# Altium schematic symbol library kmilo17pet-LT_ChargePump.SchLib: 599 symbols (part 10 of 29)
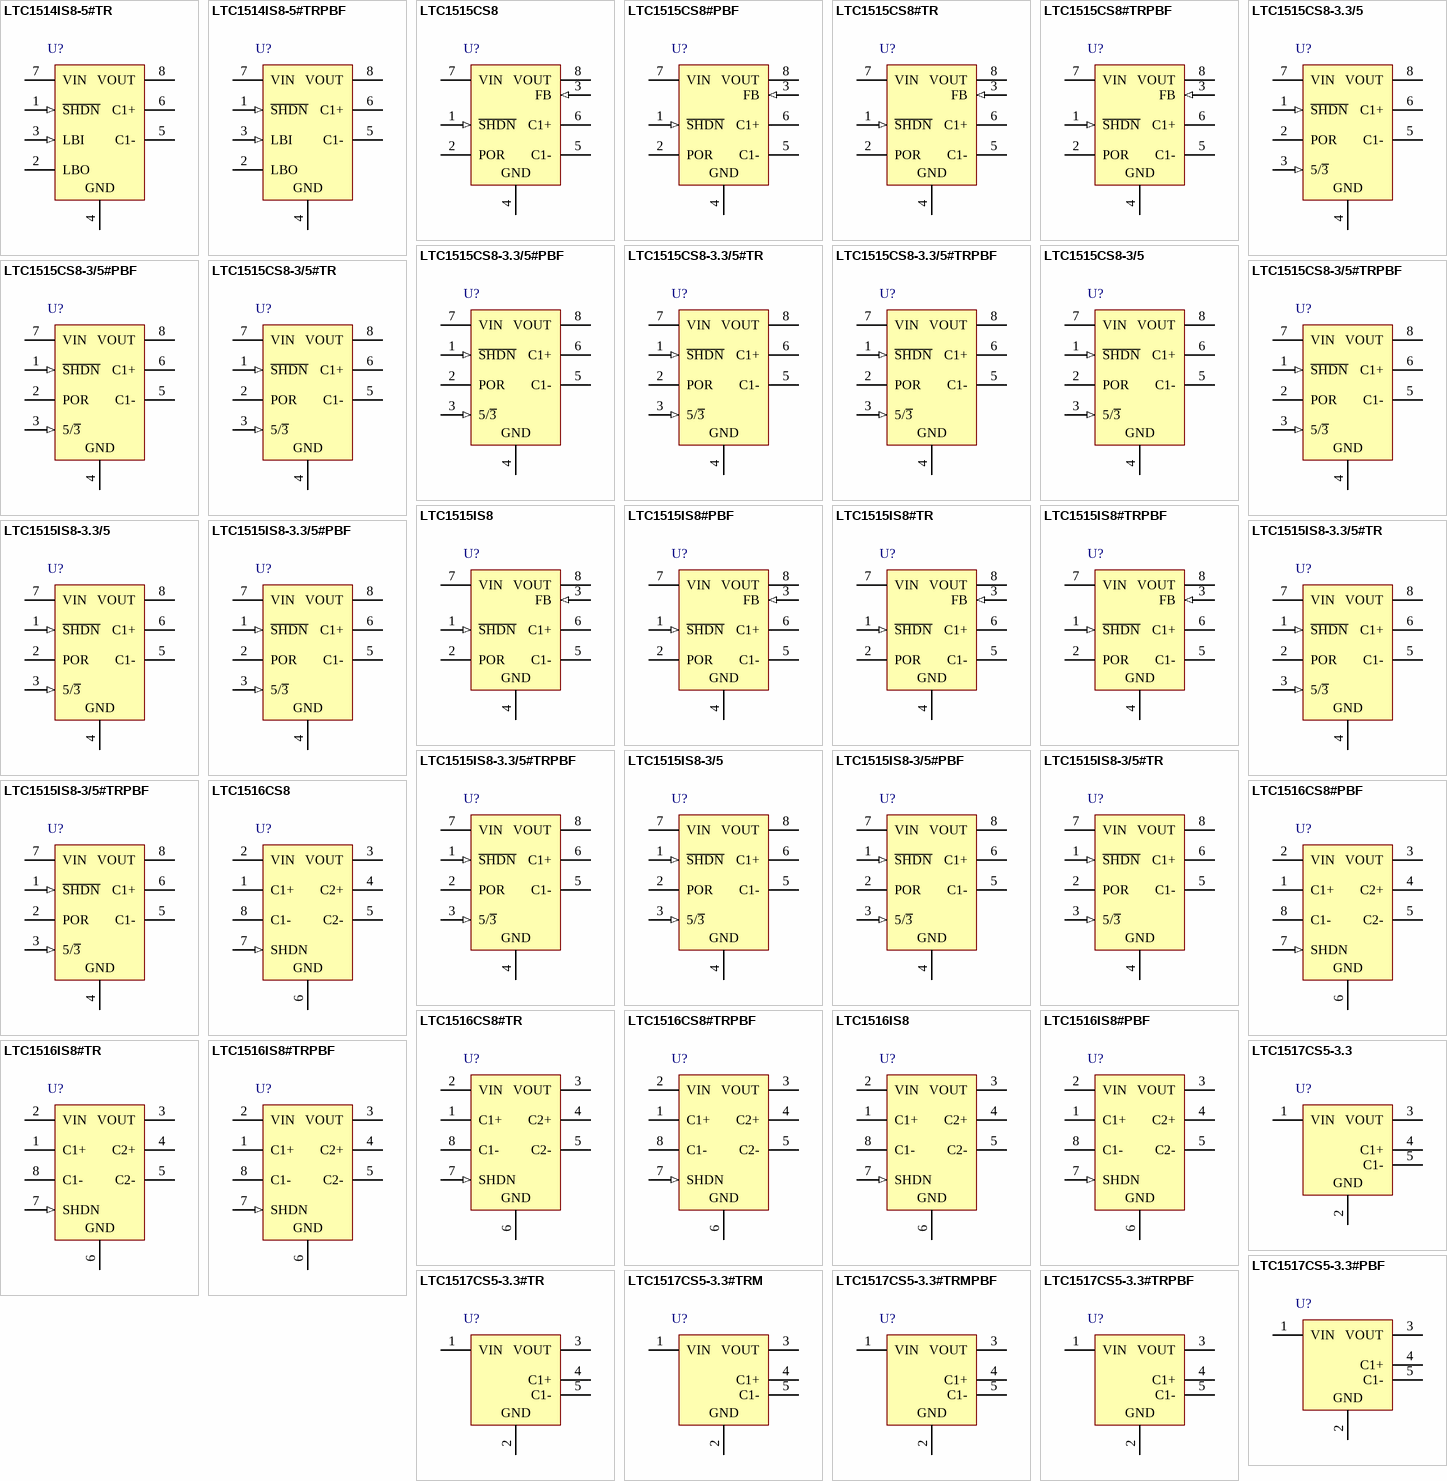
[diagram p25: symbols LTC1514IS8-5#TR to LTC1517CS5-3.3#TRPBF]

## LTC1516IS8#PBF
designator U?
Micropower, Regulated Charge Pump DC/DC Converter, 2 to 5 V Vin, 5 V Vout, 8-pin SOIC (S8-8), -40 to 85 degC, Tape and Reel; Manufacturer: Linear Technology; PartNumber: LTC1516IS8#PBF; Frequency(kHz): 600; Isupply(mA): 0.012; Max Iout(mA): 50; Vin Max(V): 5; Vin Min(V): 2; Voutput: 5V; PackageVersion: Rev. G, 03/2012; PackageReference: S8-8; PackageDescription: 8-Pin Plastic Small Outline (Narrow .150 Inch), Body 4.9 x 3.9 mm, Pitch 1.27 mm; Supplier 1: Digi-Key; Supplier Part Number 1: LTC1516IS8#PBF-ND; Supplier 2: Newark; Supplier Part Number 2: 56M1741; RoHS: TRUE; Mounting Technology: Surface Mount; ComponentLink1Description: Manufacturer URL; ComponentLink1URL: http://www.linear.com/; ComponentLink2Description: Datasheet; ComponentLink2URL: http://cds.linear.com/docs/en/datasheet/1516f.pdf; ComponentLink3Description: Package Specification; ComponentLink3URL: http://cds.linear.com/docs/en/packaging/05081610_G_SO8.pdf
footprint LT-S8-8_N (SOIC, 8-Leads, Body 5x4mm, Pitch 1.27mm, IPC Medium Density)
footprint LT-S8-8_L (SOIC, 8-Leads, Body 5x4mm, Pitch 1.27mm, IPC High Density)
footprint LT-S8-8_M (SOIC, 8-Leads, Body 5x4mm, Pitch 1.27mm, IPC Low Density)
pins: 1 C1+ "Flying Capacitor 1, Positive Terminal.", 2 VIN (power) "Input Supply Voltage.", 3 VOUT (power) "5V Output Voltage (VOUT = 0V in Shutdown).", 4 C2+ "Flying Capacitor 2, Positive Terminal.", 5 C2- "Flying Capacitor 2, Negative Terminal.", 6 GND (power) "Ground.", 7 SHDN (in) "Active High CMOS Logic-Level Shutdown Input.", 8 C1- "Flying Capacitor 1, Negative Terminal."

## LTC1516IS8#TR
designator U?
Micropower, Regulated Charge Pump DC/DC Converter, 2 to 5 V Vin, 5 V Vout, 8-pin SOIC (S8-8), -40 to 85 degC, Pb-Free; Manufacturer: Linear Technology; PartNumber: LTC1516IS8#TR; Frequency(kHz): 600; Isupply(mA): 0.012; Max Iout(mA): 50; Packing: Tape and Reel; Vin Max(V): 5; Vin Min(V): 2; Voutput: 5V; PackageVersion: Rev. G, 03/2012; PackageReference: S8-8; PackageDescription: 8-Pin Plastic Small Outline (Narrow .150 Inch), Body 4.9 x 3.9 mm, Pitch 1.27 mm; Supplier 1: Digi-Key; Supplier Part Number 1: LTC1516IS8#TR-ND; RoHS: FALSE; Mounting Technology: Surface Mount; ComponentLink1Description: Manufacturer URL; ComponentLink1URL: http://www.linear.com/; ComponentLink2Description: Datasheet; ComponentLink2URL: http://cds.linear.com/docs/en/datasheet/1516f.pdf; ComponentLink3Description: Package Specification; ComponentLink3URL: http://cds.linear.com/docs/en/packaging/05081610_G_SO8.pdf
footprint LT-S8-8_N (SOIC, 8-Leads, Body 5x4mm, Pitch 1.27mm, IPC Medium Density)
footprint LT-S8-8_L (SOIC, 8-Leads, Body 5x4mm, Pitch 1.27mm, IPC High Density)
footprint LT-S8-8_M (SOIC, 8-Leads, Body 5x4mm, Pitch 1.27mm, IPC Low Density)
pins: 1 C1+ "Flying Capacitor 1, Positive Terminal.", 2 VIN (power) "Input Supply Voltage.", 3 VOUT (power) "5V Output Voltage (VOUT = 0V in Shutdown).", 4 C2+ "Flying Capacitor 2, Positive Terminal.", 5 C2- "Flying Capacitor 2, Negative Terminal.", 6 GND (power) "Ground.", 7 SHDN (in) "Active High CMOS Logic-Level Shutdown Input.", 8 C1- "Flying Capacitor 1, Negative Terminal."

## LTC1516IS8#TRPBF
designator U?
Micropower, Regulated Charge Pump DC/DC Converter, 2 to 5 V Vin, 5 V Vout, 8-pin SOIC (S8-8), -40 to 85 degC, Pb-Free, Tape and Reel; Manufacturer: Linear Technology; PartNumber: LTC1516IS8#TRPBF; Frequency(kHz): 600; Isupply(mA): 0.012; Max Iout(mA): 50; Vin Max(V): 5; Vin Min(V): 2; Voutput: 5V; PackageVersion: Rev. G, 03/2012; PackageReference: S8-8; PackageDescription: 8-Pin Plastic Small Outline (Narrow .150 Inch), Body 4.9 x 3.9 mm, Pitch 1.27 mm; Supplier 1: Digi-Key; Supplier Part Number 1: LTC1516IS8#TRPBF-ND; Packing: Tape and Reel; RoHS: TRUE; Mounting Technology: Surface Mount; ComponentLink1Description: Manufacturer URL; ComponentLink1URL: http://www.linear.com/; ComponentLink2Description: Datasheet; ComponentLink2URL: http://cds.linear.com/docs/en/datasheet/1516f.pdf; ComponentLink3Description: Package Specification; ComponentLink3URL: http://cds.linear.com/docs/en/packaging/05081610_G_SO8.pdf
footprint LT-S8-8_N (SOIC, 8-Leads, Body 5x4mm, Pitch 1.27mm, IPC Medium Density)
footprint LT-S8-8_L (SOIC, 8-Leads, Body 5x4mm, Pitch 1.27mm, IPC High Density)
footprint LT-S8-8_M (SOIC, 8-Leads, Body 5x4mm, Pitch 1.27mm, IPC Low Density)
pins: 1 C1+ "Flying Capacitor 1, Positive Terminal.", 2 VIN (power) "Input Supply Voltage.", 3 VOUT (power) "5V Output Voltage (VOUT = 0V in Shutdown).", 4 C2+ "Flying Capacitor 2, Positive Terminal.", 5 C2- "Flying Capacitor 2, Negative Terminal.", 6 GND (power) "Ground.", 7 SHDN (in) "Active High CMOS Logic-Level Shutdown Input.", 8 C1- "Flying Capacitor 1, Negative Terminal."

## LTC1517CS5-3.3
designator U?
Micropower, Regulated Charge Pump, 2 to 4.4 V Vin, 3.3 V Vout, 5-pin SOT23 (S5-5), 0 to 70 degC; Manufacturer: Linear Technology; PartNumber: LTC1517CS5-3.3; Frequency(kHz): 700; Ishutdown(uA): 1; Isupply(mA): 0.006; Max Iout(mA): 15; Vin Max(V): 4.4; Vin Min(V): 2; Voutput: 3.3V; PackageVersion: Aug-07; PackageReference: S5-5; PackageDescription: 5-Pin Plastic SOT-23, Body 1.625 x 2.90 mm, Pitch 0.95 mm; RoHS: FALSE; Mounting Technology: Surface Mount; ComponentLink1Description: Manufacturer URL; ComponentLink1URL: http://www.linear.com/; ComponentLink2Description: Datasheet; ComponentLink2URL: http://cds.linear.com/docs/en/datasheet/15173fs.pdf; ComponentLink3Description: Package Specification; ComponentLink3URL: http://cds.linear.com/docs/en/datasheet/17278fb.pdf
footprint LT-S5-5-SOT-23_N (SOT23, 5-Leads, Body 3x1.75mm, Pitch 0.95mm, IPC Medium Density)
footprint LT-S5-5-SOT-23_L (SOT23, 5-Leads, Body 3x1.75mm, Pitch 0.95mm, IPC High Density)
footprint LT-S5-5-SOT-23_M (SOT23, 5-Leads, Body 3x1.75mm, Pitch 0.95mm, IPC Low Density)
pins: 1 VIN (power) "Charge Pump Input Voltage.", 2 GND (power) "Ground. Should be tied to a ground plane for best performance.", 3 VOUT (power) "Regulated Output Voltage. VOUT should be  bypassed with a >= 3.3 uF low ESR capacitor as close as possible to the pin for best performance.", 4 C1+ "Charge Pump Flying Capacitor Positive Terminal.", 5 C1- "Charge Pump Flying Capacitor Negative Terminal."

## LTC1517CS5-3.3#PBF
designator U?
Micropower, Regulated Charge Pump, 2 to 4.4 V Vin, 3.3 V Vout, 5-pin SOT23 (S5-5), 0 to 70 degC, Pb-Free; Manufacturer: Linear Technology; PartNumber: LTC1517CS5-3.3#PBF; Frequency(kHz): 700; Ishutdown(uA): 1; Isupply(mA): 0.006; Max Iout(mA): 15; Vin Max(V): 4.4; Vin Min(V): 2; Voutput: 3.3V; PackageVersion: Aug-07; PackageReference: S5-5; PackageDescription: 5-Pin Plastic SOT-23, Body 1.625 x 2.90 mm, Pitch 0.95 mm; RoHS: TRUE; Mounting Technology: Surface Mount; ComponentLink1Description: Manufacturer URL; ComponentLink1URL: http://www.linear.com/; ComponentLink2Description: Datasheet; ComponentLink2URL: http://cds.linear.com/docs/en/datasheet/15173fs.pdf; ComponentLink3Description: Package Specification; ComponentLink3URL: http://cds.linear.com/docs/en/datasheet/17278fb.pdf
footprint LT-S5-5-SOT-23_N (SOT23, 5-Leads, Body 3x1.75mm, Pitch 0.95mm, IPC Medium Density)
footprint LT-S5-5-SOT-23_L (SOT23, 5-Leads, Body 3x1.75mm, Pitch 0.95mm, IPC High Density)
footprint LT-S5-5-SOT-23_M (SOT23, 5-Leads, Body 3x1.75mm, Pitch 0.95mm, IPC Low Density)
pins: 1 VIN (power) "Charge Pump Input Voltage.", 2 GND (power) "Ground. Should be tied to a ground plane for best performance.", 3 VOUT (power) "Regulated Output Voltage. VOUT should be  bypassed with a >= 3.3 uF low ESR capacitor as close as possible to the pin for best performance.", 4 C1+ "Charge Pump Flying Capacitor Positive Terminal.", 5 C1- "Charge Pump Flying Capacitor Negative Terminal."

## LTC1517CS5-3.3#TR
designator U?
Micropower, Regulated Charge Pump, 2 to 4.4 V Vin, 3.3 V Vout, 5-pin SOT23 (S5-5), 0 to 70 degC, Tape and Reel; Manufacturer: Linear Technology; PartNumber: LTC1517CS5-3.3#TR; Frequency(kHz): 700; Ishutdown(uA): 1; Isupply(mA): 0.006; Max Iout(mA): 15; Vin Max(V): 4.4; Vin Min(V): 2; Voutput: 3.3V; PackageVersion: Aug-07; PackageReference: S5-5; PackageDescription: 5-Pin Plastic SOT-23, Body 1.625 x 2.90 mm, Pitch 0.95 mm; Supplier 1: Digi-Key; Supplier Part Number 1: LTC1517CS5-3.3#TR-ND; Packing: Tape and Reel; RoHS: FALSE; Mounting Technology: Surface Mount; ComponentLink1Description: Manufacturer URL; ComponentLink1URL: http://www.linear.com/; ComponentLink2Description: Datasheet; ComponentLink2URL: http://cds.linear.com/docs/en/datasheet/15173fs.pdf; ComponentLink3Description: Package Specification; ComponentLink3URL: http://cds.linear.com/docs/en/datasheet/17278fb.pdf
footprint LT-S5-5-SOT-23_N (SOT23, 5-Leads, Body 3x1.75mm, Pitch 0.95mm, IPC Medium Density)
footprint LT-S5-5-SOT-23_L (SOT23, 5-Leads, Body 3x1.75mm, Pitch 0.95mm, IPC High Density)
footprint LT-S5-5-SOT-23_M (SOT23, 5-Leads, Body 3x1.75mm, Pitch 0.95mm, IPC Low Density)
pins: 1 VIN (power) "Charge Pump Input Voltage.", 2 GND (power) "Ground. Should be tied to a ground plane for best performance.", 3 VOUT (power) "Regulated Output Voltage. VOUT should be  bypassed with a >= 3.3 uF low ESR capacitor as close as possible to the pin for best performance.", 4 C1+ "Charge Pump Flying Capacitor Positive Terminal.", 5 C1- "Charge Pump Flying Capacitor Negative Terminal."

## LTC1517CS5-3.3#TRM
designator U?
Micropower, Regulated Charge Pump, 2 to 4.4 V Vin, 3.3 V Vout, 5-pin SOT23 (S5-5), 0 to 70 degC, Mini Tape and Reel; Manufacturer: Linear Technology; PartNumber: LTC1517CS5-3.3#TRM; Frequency(kHz): 700; Ishutdown(uA): 1; Isupply(mA): 0.006; Max Iout(mA): 15; Vin Max(V): 4.4; Vin Min(V): 2; Voutput: 3.3V; PackageVersion: Aug-07; PackageReference: S5-5; PackageDescription: 5-Pin Plastic SOT-23, Body 1.625 x 2.90 mm, Pitch 0.95 mm; Supplier 1: Digi-Key; Supplier Part Number 1: LTC1517CS5-3.3#TRMTR-ND; Supplier 2: Digi-Key; Supplier Part Number 2: LTC1517CS5-3.3#TRMCT-ND; Packing: Mini Tape and Reel; RoHS: FALSE; Mounting Technology: Surface Mount; ComponentLink1Description: Manufacturer URL; ComponentLink1URL: http://www.linear.com/; ComponentLink2Description: Datasheet; ComponentLink2URL: http://cds.linear.com/docs/en/datasheet/15173fs.pdf; ComponentLink3Description: Package Specification; ComponentLink3URL: http://cds.linear.com/docs/en/datasheet/17278fb.pdf
footprint LT-S5-5-SOT-23_N (SOT23, 5-Leads, Body 3x1.75mm, Pitch 0.95mm, IPC Medium Density)
footprint LT-S5-5-SOT-23_L (SOT23, 5-Leads, Body 3x1.75mm, Pitch 0.95mm, IPC High Density)
footprint LT-S5-5-SOT-23_M (SOT23, 5-Leads, Body 3x1.75mm, Pitch 0.95mm, IPC Low Density)
pins: 1 VIN (power) "Charge Pump Input Voltage.", 2 GND (power) "Ground. Should be tied to a ground plane for best performance.", 3 VOUT (power) "Regulated Output Voltage. VOUT should be  bypassed with a >= 3.3 uF low ESR capacitor as close as possible to the pin for best performance.", 4 C1+ "Charge Pump Flying Capacitor Positive Terminal.", 5 C1- "Charge Pump Flying Capacitor Negative Terminal."

## LTC1517CS5-3.3#TRMPBF
designator U?
Micropower, Regulated Charge Pump, 2 to 4.4 V Vin, 3.3 V Vout, 5-pin SOT23 (S5-5), 0 to 70 degC, Pb-Free, Mini Tape and Reel; Manufacturer: Linear Technology; PartNumber: LTC1517CS5-3.3#TRMPBF; Frequency(kHz): 700; Ishutdown(uA): 1; Isupply(mA): 0.006; Max Iout(mA): 15; Vin Max(V): 4.4; Vin Min(V): 2; Voutput: 3.3V; PackageVersion: Aug-07; PackageReference: S5-5; PackageDescription: 5-Pin Plastic SOT-23, Body 1.625 x 2.90 mm, Pitch 0.95 mm; Supplier 1: Digi-Key; Supplier Part Number 1: LTC1517CS5-3.3#TRMPBF-ND; Packing: Mini Tape and Reel; RoHS: TRUE; Mounting Technology: Surface Mount; ComponentLink1Description: Manufacturer URL; ComponentLink1URL: http://www.linear.com/; ComponentLink2Description: Datasheet; ComponentLink2URL: http://cds.linear.com/docs/en/datasheet/15173fs.pdf; ComponentLink3Description: Package Specification; ComponentLink3URL: http://cds.linear.com/docs/en/datasheet/17278fb.pdf
footprint LT-S5-5-SOT-23_N (SOT23, 5-Leads, Body 3x1.75mm, Pitch 0.95mm, IPC Medium Density)
footprint LT-S5-5-SOT-23_L (SOT23, 5-Leads, Body 3x1.75mm, Pitch 0.95mm, IPC High Density)
footprint LT-S5-5-SOT-23_M (SOT23, 5-Leads, Body 3x1.75mm, Pitch 0.95mm, IPC Low Density)
pins: 1 VIN (power) "Charge Pump Input Voltage.", 2 GND (power) "Ground. Should be tied to a ground plane for best performance.", 3 VOUT (power) "Regulated Output Voltage. VOUT should be  bypassed with a >= 3.3 uF low ESR capacitor as close as possible to the pin for best performance.", 4 C1+ "Charge Pump Flying Capacitor Positive Terminal.", 5 C1- "Charge Pump Flying Capacitor Negative Terminal."

## LTC1517CS5-3.3#TRPBF
designator U?
Micropower, Regulated Charge Pump, 2 to 4.4 V Vin, 3.3 V Vout, 5-pin SOT23 (S5-5), 0 to 70 degC, Pb-Free, Tape and Reel; Manufacturer: Linear Technology; PartNumber: LTC1517CS5-3.3#TRPBF; Frequency(kHz): 700; Ishutdown(uA): 1; Isupply(mA): 0.006; Max Iout(mA): 15; Vin Max(V): 4.4; Vin Min(V): 2; Voutput: 3.3V; PackageVersion: Aug-07; PackageReference: S5-5; PackageDescription: 5-Pin Plastic SOT-23, Body 1.625 x 2.90 mm, Pitch 0.95 mm; Supplier 1: Digi-Key; Supplier Part Number 1: LTC1517CS5-3.3#TRPBF-ND; Packing: Tape and Reel; RoHS: TRUE; Mounting Technology: Surface Mount; ComponentLink1Description: Manufacturer URL; ComponentLink1URL: http://www.linear.com/; ComponentLink2Description: Datasheet; ComponentLink2URL: http://cds.linear.com/docs/en/datasheet/15173fs.pdf; ComponentLink3Description: Package Specification; ComponentLink3URL: http://cds.linear.com/docs/en/datasheet/17278fb.pdf
footprint LT-S5-5-SOT-23_N (SOT23, 5-Leads, Body 3x1.75mm, Pitch 0.95mm, IPC Medium Density)
footprint LT-S5-5-SOT-23_L (SOT23, 5-Leads, Body 3x1.75mm, Pitch 0.95mm, IPC High Density)
footprint LT-S5-5-SOT-23_M (SOT23, 5-Leads, Body 3x1.75mm, Pitch 0.95mm, IPC Low Density)
pins: 1 VIN (power) "Charge Pump Input Voltage.", 2 GND (power) "Ground. Should be tied to a ground plane for best performance.", 3 VOUT (power) "Regulated Output Voltage. VOUT should be  bypassed with a >= 3.3 uF low ESR capacitor as close as possible to the pin for best performance.", 4 C1+ "Charge Pump Flying Capacitor Positive Terminal.", 5 C1- "Charge Pump Flying Capacitor Negative Terminal."

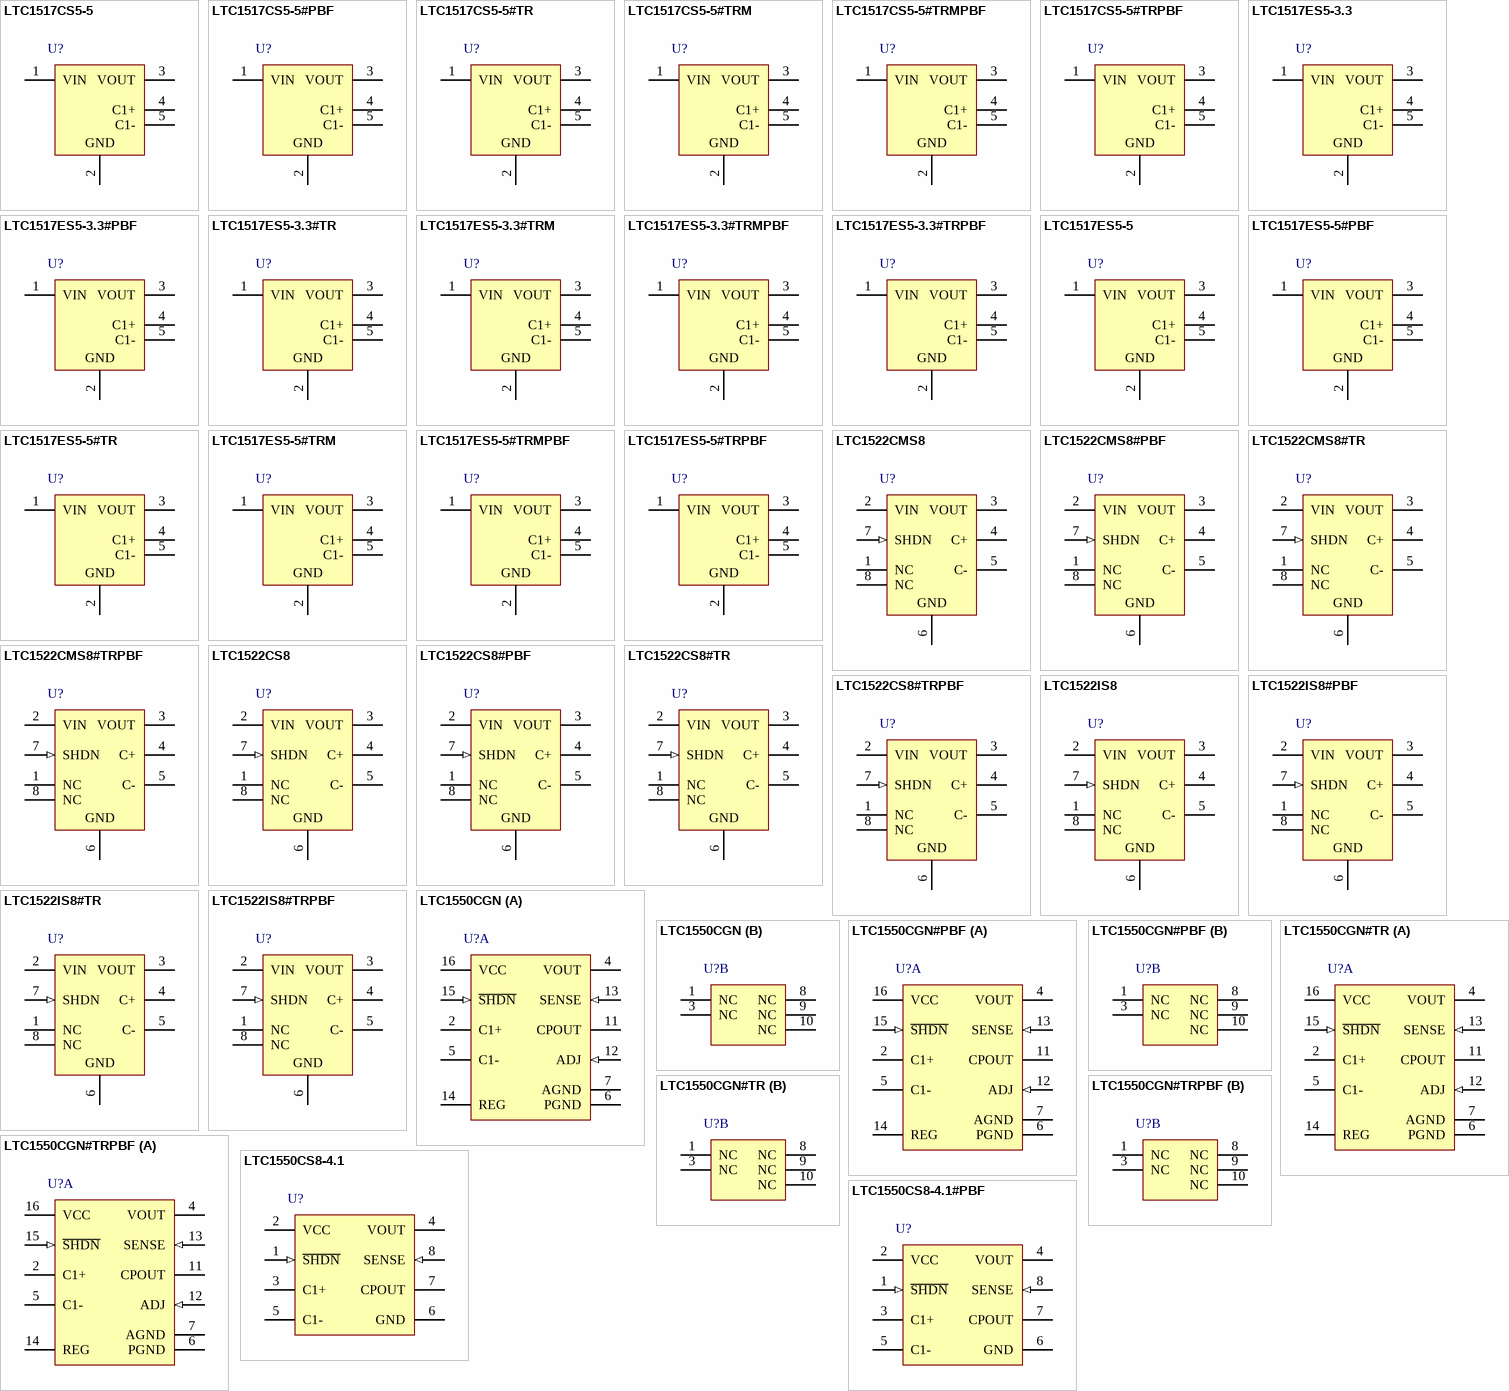
[diagram p6: symbols LTC1517CS5-5 to LTC1550CS8-4.1#PBF]

## LTC1517CS5-5
designator U?
Micropower, Regulated Charge Pump, 2.7 to 5 V Vin, 5 V Vout, 5-pin SOT23 (S5-5), 0 to 70 degC; Manufacturer: Linear Technology; PartNumber: LTC1517CS5-5; Frequency(kHz): 800; Ishutdown(uA): 1; Isupply(mA): 0.006; Max Iout(mA): 20; Vin Max(V): 5; Vin Min(V): 2.7; Voutput: 5V; PackageVersion: Aug-07; PackageReference: S5-5; PackageDescription: 5-Pin Plastic SOT-23, Body 1.625 x 2.90 mm, Pitch 0.95 mm; RoHS: FALSE; Mounting Technology: Surface Mount; ComponentLink1Description: Manufacturer URL; ComponentLink1URL: http://www.linear.com/; ComponentLink2Description: Datasheet; ComponentLink2URL: http://cds.linear.com/docs/en/datasheet/15175fs.pdf; ComponentLink3Description: Package Specification; ComponentLink3URL: http://cds.linear.com/docs/en/datasheet/17278fb.pdf
footprint LT-S5-5-SOT-23_N (SOT23, 5-Leads, Body 3x1.75mm, Pitch 0.95mm, IPC Medium Density)
footprint LT-S5-5-SOT-23_L (SOT23, 5-Leads, Body 3x1.75mm, Pitch 0.95mm, IPC High Density)
footprint LT-S5-5-SOT-23_M (SOT23, 5-Leads, Body 3x1.75mm, Pitch 0.95mm, IPC Low Density)
pins: 1 VIN (power) "Charge Pump Input Voltage.", 2 GND (power) "Ground. Should be tied to a ground plane for best performance.", 3 VOUT (power) "Regulated Output Voltage. VOUT should be  bypassed with a >= 3.3 uF low ESR capacitor as close as possible to the pin for best performance.", 4 C1+ "Charge Pump Flying Capacitor Positive Terminal.", 5 C1- "Charge Pump Flying Capacitor Negative Terminal."

## LTC1517CS5-5#PBF
designator U?
Micropower, Regulated Charge Pump, 2.7 to 5 V Vin, 5 V Vout, 5-pin SOT23 (S5-5), 0 to 70 degC, Pb-Free; Manufacturer: Linear Technology; PartNumber: LTC1517CS5-5#PBF; Frequency(kHz): 800; Ishutdown(uA): 1; Isupply(mA): 0.006; Max Iout(mA): 20; Vin Max(V): 5; Vin Min(V): 2.7; Voutput: 5V; PackageVersion: Aug-07; PackageReference: S5-5; PackageDescription: 5-Pin Plastic SOT-23, Body 1.625 x 2.90 mm, Pitch 0.95 mm; Supplier 1: Farnell; Supplier Part Number 1: 2308091; Supplier 2: Newark; Supplier Part Number 2: 78T2498; RoHS: TRUE; Mounting Technology: Surface Mount; ComponentLink1Description: Manufacturer URL; ComponentLink1URL: http://www.linear.com/; ComponentLink2Description: Datasheet; ComponentLink2URL: http://cds.linear.com/docs/en/datasheet/15175fs.pdf; ComponentLink3Description: Package Specification; ComponentLink3URL: http://cds.linear.com/docs/en/datasheet/17278fb.pdf
footprint LT-S5-5-SOT-23_N (SOT23, 5-Leads, Body 3x1.75mm, Pitch 0.95mm, IPC Medium Density)
footprint LT-S5-5-SOT-23_L (SOT23, 5-Leads, Body 3x1.75mm, Pitch 0.95mm, IPC High Density)
footprint LT-S5-5-SOT-23_M (SOT23, 5-Leads, Body 3x1.75mm, Pitch 0.95mm, IPC Low Density)
pins: 1 VIN (power) "Charge Pump Input Voltage.", 2 GND (power) "Ground. Should be tied to a ground plane for best performance.", 3 VOUT (power) "Regulated Output Voltage. VOUT should be  bypassed with a >= 3.3 uF low ESR capacitor as close as possible to the pin for best performance.", 4 C1+ "Charge Pump Flying Capacitor Positive Terminal.", 5 C1- "Charge Pump Flying Capacitor Negative Terminal."

## LTC1517CS5-5#TR
designator U?
Micropower, Regulated Charge Pump, 2.7 to 5 V Vin, 5 V Vout, 5-pin SOT23 (S5-5), 0 to 70 degC, Tape and Reel; Manufacturer: Linear Technology; PartNumber: LTC1517CS5-5#TR; Frequency(kHz): 800; Ishutdown(uA): 1; Isupply(mA): 0.006; Max Iout(mA): 20; Vin Max(V): 5; Vin Min(V): 2.7; Voutput: 5V; PackageVersion: Aug-07; PackageReference: S5-5; PackageDescription: 5-Pin Plastic SOT-23, Body 1.625 x 2.90 mm, Pitch 0.95 mm; Supplier 1: Digi-Key; Supplier Part Number 1: LTC1517CS5-5#TR-ND; Packing: Tape and Reel; RoHS: FALSE; Mounting Technology: Surface Mount; ComponentLink1Description: Manufacturer URL; ComponentLink1URL: http://www.linear.com/; ComponentLink2Description: Datasheet; ComponentLink2URL: http://cds.linear.com/docs/en/datasheet/15175fs.pdf; ComponentLink3Description: Package Specification; ComponentLink3URL: http://cds.linear.com/docs/en/datasheet/17278fb.pdf
footprint LT-S5-5-SOT-23_N (SOT23, 5-Leads, Body 3x1.75mm, Pitch 0.95mm, IPC Medium Density)
footprint LT-S5-5-SOT-23_L (SOT23, 5-Leads, Body 3x1.75mm, Pitch 0.95mm, IPC High Density)
footprint LT-S5-5-SOT-23_M (SOT23, 5-Leads, Body 3x1.75mm, Pitch 0.95mm, IPC Low Density)
pins: 1 VIN (power) "Charge Pump Input Voltage.", 2 GND (power) "Ground. Should be tied to a ground plane for best performance.", 3 VOUT (power) "Regulated Output Voltage. VOUT should be  bypassed with a >= 3.3 uF low ESR capacitor as close as possible to the pin for best performance.", 4 C1+ "Charge Pump Flying Capacitor Positive Terminal.", 5 C1- "Charge Pump Flying Capacitor Negative Terminal."

## LTC1517CS5-5#TRM
designator U?
Micropower, Regulated Charge Pump, 2.7 to 5 V Vin, 5 V Vout, 5-pin SOT23 (S5-5), 0 to 70 degC, Mini Tape and Reel; Manufacturer: Linear Technology; PartNumber: LTC1517CS5-5#TRM; Frequency(kHz): 800; Ishutdown(uA): 1; Isupply(mA): 0.006; Max Iout(mA): 20; Vin Max(V): 5; Vin Min(V): 2.7; Voutput: 5V; PackageVersion: Aug-07; PackageReference: S5-5; PackageDescription: 5-Pin Plastic SOT-23, Body 1.625 x 2.90 mm, Pitch 0.95 mm; Supplier 1: Digi-Key; Supplier Part Number 1: LTC1517CS5-5#TRMCT-ND; Packing: Mini Tape and Reel; RoHS: FALSE; Mounting Technology: Surface Mount; ComponentLink1Description: Manufacturer URL; ComponentLink1URL: http://www.linear.com/; ComponentLink2Description: Datasheet; ComponentLink2URL: http://cds.linear.com/docs/en/datasheet/15175fs.pdf; ComponentLink3Description: Package Specification; ComponentLink3URL: http://cds.linear.com/docs/en/datasheet/17278fb.pdf
footprint LT-S5-5-SOT-23_N (SOT23, 5-Leads, Body 3x1.75mm, Pitch 0.95mm, IPC Medium Density)
footprint LT-S5-5-SOT-23_L (SOT23, 5-Leads, Body 3x1.75mm, Pitch 0.95mm, IPC High Density)
footprint LT-S5-5-SOT-23_M (SOT23, 5-Leads, Body 3x1.75mm, Pitch 0.95mm, IPC Low Density)
pins: 1 VIN (power) "Charge Pump Input Voltage.", 2 GND (power) "Ground. Should be tied to a ground plane for best performance.", 3 VOUT (power) "Regulated Output Voltage. VOUT should be  bypassed with a >= 3.3 uF low ESR capacitor as close as possible to the pin for best performance.", 4 C1+ "Charge Pump Flying Capacitor Positive Terminal.", 5 C1- "Charge Pump Flying Capacitor Negative Terminal."

## LTC1517CS5-5#TRMPBF
designator U?
Micropower, Regulated Charge Pump, 2.7 to 5 V Vin, 5 V Vout, 5-pin SOT23 (S5-5), 0 to 70 degC, Pb-Free, Mini Tape and Reel; Manufacturer: Linear Technology; PartNumber: LTC1517CS5-5#TRMPBF; Frequency(kHz): 800; Ishutdown(uA): 1; Isupply(mA): 0.006; Max Iout(mA): 20; Vin Max(V): 5; Vin Min(V): 2.7; Voutput: 5V; PackageVersion: Aug-07; PackageReference: S5-5; PackageDescription: 5-Pin Plastic SOT-23, Body 1.625 x 2.90 mm, Pitch 0.95 mm; Supplier 1: Digi-Key; Supplier Part Number 1: LTC1517CS5-5#TRMPBFTR-ND; Supplier 2: Digi-Key; Supplier Part Number 2: LTC1517CS5-5#TRMPBFCT-ND; Supplier 3: Digi-Key; Supplier Part Number 3: LTC1517CS5-5#TRMPBFDKR-ND; Supplier 4: Farnell; Supplier Part Number 4: 1663853RL; Supplier 5: Farnell; Supplier Part Number 5: 1663853; Packing: Mini Tape and Reel; RoHS: TRUE; Mounting Technology: Surface Mount; ComponentLink1Description: Manufacturer URL; ComponentLink1URL: http://www.linear.com/; ComponentLink2Description: Datasheet; ComponentLink2URL: http://cds.linear.com/docs/en/datasheet/15175fs.pdf; ComponentLink3Description: Package Specification; ComponentLink3URL: http://cds.linear.com/docs/en/datasheet/17278fb.pdf
footprint LT-S5-5-SOT-23_N (SOT23, 5-Leads, Body 3x1.75mm, Pitch 0.95mm, IPC Medium Density)
footprint LT-S5-5-SOT-23_L (SOT23, 5-Leads, Body 3x1.75mm, Pitch 0.95mm, IPC High Density)
footprint LT-S5-5-SOT-23_M (SOT23, 5-Leads, Body 3x1.75mm, Pitch 0.95mm, IPC Low Density)
pins: 1 VIN (power) "Charge Pump Input Voltage.", 2 GND (power) "Ground. Should be tied to a ground plane for best performance.", 3 VOUT (power) "Regulated Output Voltage. VOUT should be  bypassed with a >= 3.3 uF low ESR capacitor as close as possible to the pin for best performance.", 4 C1+ "Charge Pump Flying Capacitor Positive Terminal.", 5 C1- "Charge Pump Flying Capacitor Negative Terminal."

## LTC1517CS5-5#TRPBF
designator U?
Micropower, Regulated Charge Pump, 2.7 to 5 V Vin, 5 V Vout, 5-pin SOT23 (S5-5), 0 to 70 degC, Pb-Free, Tape and Reel; Manufacturer: Linear Technology; PartNumber: LTC1517CS5-5#TRPBF; Frequency(kHz): 800; Ishutdown(uA): 1; Isupply(mA): 0.006; Max Iout(mA): 20; Vin Max(V): 5; Vin Min(V): 2.7; Voutput: 5V; PackageVersion: Aug-07; PackageReference: S5-5; PackageDescription: 5-Pin Plastic SOT-23, Body 1.625 x 2.90 mm, Pitch 0.95 mm; Supplier 1: Digi-Key; Supplier Part Number 1: LTC1517CS5-5#TRPBF-ND; Packing: Tape and Reel; RoHS: TRUE; Mounting Technology: Surface Mount; ComponentLink1Description: Manufacturer URL; ComponentLink1URL: http://www.linear.com/; ComponentLink2Description: Datasheet; ComponentLink2URL: http://cds.linear.com/docs/en/datasheet/15175fs.pdf; ComponentLink3Description: Package Specification; ComponentLink3URL: http://cds.linear.com/docs/en/datasheet/17278fb.pdf
footprint LT-S5-5-SOT-23_N (SOT23, 5-Leads, Body 3x1.75mm, Pitch 0.95mm, IPC Medium Density)
footprint LT-S5-5-SOT-23_L (SOT23, 5-Leads, Body 3x1.75mm, Pitch 0.95mm, IPC High Density)
footprint LT-S5-5-SOT-23_M (SOT23, 5-Leads, Body 3x1.75mm, Pitch 0.95mm, IPC Low Density)
pins: 1 VIN (power) "Charge Pump Input Voltage.", 2 GND (power) "Ground. Should be tied to a ground plane for best performance.", 3 VOUT (power) "Regulated Output Voltage. VOUT should be  bypassed with a >= 3.3 uF low ESR capacitor as close as possible to the pin for best performance.", 4 C1+ "Charge Pump Flying Capacitor Positive Terminal.", 5 C1- "Charge Pump Flying Capacitor Negative Terminal."

## LTC1517ES5-3.3
designator U?
Micropower, Regulated Charge Pump, 2 to 4.4 V Vin, 3.3 V Vout, 5-pin SOT23 (S5-5), -40 to 85 degC; Manufacturer: Linear Technology; PartNumber: LTC1517ES5-3.3; Frequency(kHz): 700; Ishutdown(uA): 1; Isupply(mA): 0.006; Max Iout(mA): 15; Vin Max(V): 4.4; Vin Min(V): 2; Voutput: 3.3V; PackageVersion: Aug-07; PackageReference: S5-5; PackageDescription: 5-Pin Plastic SOT-23, Body 1.625 x 2.90 mm, Pitch 0.95 mm; RoHS: FALSE; Mounting Technology: Surface Mount; ComponentLink1Description: Manufacturer URL; ComponentLink1URL: http://www.linear.com/; ComponentLink2Description: Datasheet; ComponentLink2URL: http://cds.linear.com/docs/en/datasheet/15173fs.pdf; ComponentLink3Description: Package Specification; ComponentLink3URL: http://cds.linear.com/docs/en/datasheet/17278fb.pdf
footprint LT-S5-5-SOT-23_N (SOT23, 5-Leads, Body 3x1.75mm, Pitch 0.95mm, IPC Medium Density)
footprint LT-S5-5-SOT-23_L (SOT23, 5-Leads, Body 3x1.75mm, Pitch 0.95mm, IPC High Density)
footprint LT-S5-5-SOT-23_M (SOT23, 5-Leads, Body 3x1.75mm, Pitch 0.95mm, IPC Low Density)
pins: 1 VIN (power) "Charge Pump Input Voltage.", 2 GND (power) "Ground. Should be tied to a ground plane for best performance.", 3 VOUT (power) "Regulated Output Voltage. VOUT should be  bypassed with a >= 3.3 uF low ESR capacitor as close as possible to the pin for best performance.", 4 C1+ "Charge Pump Flying Capacitor Positive Terminal.", 5 C1- "Charge Pump Flying Capacitor Negative Terminal."

## LTC1517ES5-3.3#PBF
designator U?
Micropower, Regulated Charge Pump, 2 to 4.4 V Vin, 3.3 V Vout, 5-pin SOT23 (S5-5), -40 to 85 degC, Pb-Free; Manufacturer: Linear Technology; PartNumber: LTC1517ES5-3.3#PBF; Frequency(kHz): 700; Ishutdown(uA): 1; Isupply(mA): 0.006; Max Iout(mA): 15; Vin Max(V): 4.4; Vin Min(V): 2; Voutput: 3.3V; PackageVersion: Aug-07; PackageReference: S5-5; PackageDescription: 5-Pin Plastic SOT-23, Body 1.625 x 2.90 mm, Pitch 0.95 mm; Supplier 1: Newark; Supplier Part Number 1: 78T2499; RoHS: TRUE; Mounting Technology: Surface Mount; ComponentLink1Description: Manufacturer URL; ComponentLink1URL: http://www.linear.com/; ComponentLink2Description: Datasheet; ComponentLink2URL: http://cds.linear.com/docs/en/datasheet/15173fs.pdf; ComponentLink3Description: Package Specification; ComponentLink3URL: http://cds.linear.com/docs/en/datasheet/17278fb.pdf
footprint LT-S5-5-SOT-23_N (SOT23, 5-Leads, Body 3x1.75mm, Pitch 0.95mm, IPC Medium Density)
footprint LT-S5-5-SOT-23_L (SOT23, 5-Leads, Body 3x1.75mm, Pitch 0.95mm, IPC High Density)
footprint LT-S5-5-SOT-23_M (SOT23, 5-Leads, Body 3x1.75mm, Pitch 0.95mm, IPC Low Density)
pins: 1 VIN (power) "Charge Pump Input Voltage.", 2 GND (power) "Ground. Should be tied to a ground plane for best performance.", 3 VOUT (power) "Regulated Output Voltage. VOUT should be  bypassed with a >= 3.3 uF low ESR capacitor as close as possible to the pin for best performance.", 4 C1+ "Charge Pump Flying Capacitor Positive Terminal.", 5 C1- "Charge Pump Flying Capacitor Negative Terminal."

## LTC1517ES5-3.3#TR
designator U?
Micropower, Regulated Charge Pump, 2 to 4.4 V Vin, 3.3 V Vout, 5-pin SOT23 (S5-5), -40 to 85 degC, Tape and Reel; Manufacturer: Linear Technology; PartNumber: LTC1517ES5-3.3#TR; Frequency(kHz): 700; Ishutdown(uA): 1; Isupply(mA): 0.006; Max Iout(mA): 15; Vin Max(V): 4.4; Vin Min(V): 2; Voutput: 3.3V; PackageVersion: Aug-07; PackageReference: S5-5; PackageDescription: 5-Pin Plastic SOT-23, Body 1.625 x 2.90 mm, Pitch 0.95 mm; Supplier 1: Digi-Key; Supplier Part Number 1: LTC1517ES5-3.3TR-ND; Packing: Tape and Reel; RoHS: FALSE; Mounting Technology: Surface Mount; ComponentLink1Description: Manufacturer URL; ComponentLink1URL: http://www.linear.com/; ComponentLink2Description: Datasheet; ComponentLink2URL: http://cds.linear.com/docs/en/datasheet/15173fs.pdf; ComponentLink3Description: Package Specification; ComponentLink3URL: http://cds.linear.com/docs/en/datasheet/17278fb.pdf
footprint LT-S5-5-SOT-23_N (SOT23, 5-Leads, Body 3x1.75mm, Pitch 0.95mm, IPC Medium Density)
footprint LT-S5-5-SOT-23_L (SOT23, 5-Leads, Body 3x1.75mm, Pitch 0.95mm, IPC High Density)
footprint LT-S5-5-SOT-23_M (SOT23, 5-Leads, Body 3x1.75mm, Pitch 0.95mm, IPC Low Density)
pins: 1 VIN (power) "Charge Pump Input Voltage.", 2 GND (power) "Ground. Should be tied to a ground plane for best performance.", 3 VOUT (power) "Regulated Output Voltage. VOUT should be  bypassed with a >= 3.3 uF low ESR capacitor as close as possible to the pin for best performance.", 4 C1+ "Charge Pump Flying Capacitor Positive Terminal.", 5 C1- "Charge Pump Flying Capacitor Negative Terminal."

## LTC1517ES5-3.3#TRM
designator U?
Micropower, Regulated Charge Pump, 2 to 4.4 V Vin, 3.3 V Vout, 5-pin SOT23 (S5-5), -40 to 85 degC, Mini Tape and Reel; Manufacturer: Linear Technology; PartNumber: LTC1517ES5-3.3#TRM; Frequency(kHz): 700; Ishutdown(uA): 1; Isupply(mA): 0.006; Max Iout(mA): 15; Vin Max(V): 4.4; Vin Min(V): 2; Voutput: 3.3V; PackageVersion: Aug-07; PackageReference: S5-5; PackageDescription: 5-Pin Plastic SOT-23, Body 1.625 x 2.90 mm, Pitch 0.95 mm; Supplier 1: Digi-Key; Supplier Part Number 1: LTC1517ES5-3.3#TRMCT-ND; Packing: Mini Tape and Reel; RoHS: FALSE; Mounting Technology: Surface Mount; ComponentLink1Description: Manufacturer URL; ComponentLink1URL: http://www.linear.com/; ComponentLink2Description: Datasheet; ComponentLink2URL: http://cds.linear.com/docs/en/datasheet/15173fs.pdf; ComponentLink3Description: Package Specification; ComponentLink3URL: http://cds.linear.com/docs/en/datasheet/17278fb.pdf
footprint LT-S5-5-SOT-23_N (SOT23, 5-Leads, Body 3x1.75mm, Pitch 0.95mm, IPC Medium Density)
footprint LT-S5-5-SOT-23_L (SOT23, 5-Leads, Body 3x1.75mm, Pitch 0.95mm, IPC High Density)
footprint LT-S5-5-SOT-23_M (SOT23, 5-Leads, Body 3x1.75mm, Pitch 0.95mm, IPC Low Density)
pins: 1 VIN (power) "Charge Pump Input Voltage.", 2 GND (power) "Ground. Should be tied to a ground plane for best performance.", 3 VOUT (power) "Regulated Output Voltage. VOUT should be  bypassed with a >= 3.3 uF low ESR capacitor as close as possible to the pin for best performance.", 4 C1+ "Charge Pump Flying Capacitor Positive Terminal.", 5 C1- "Charge Pump Flying Capacitor Negative Terminal."

## LTC1517ES5-3.3#TRMPBF
designator U?
Micropower, Regulated Charge Pump, 2 to 4.4 V Vin, 3.3 V Vout, 5-pin SOT23 (S5-5), -40 to 85 degC, Pb-Free, Mini Tape and Reel; Manufacturer: Linear Technology; PartNumber: LTC1517ES5-3.3#TRMPBF; Frequency(kHz): 700; Ishutdown(uA): 1; Isupply(mA): 0.006; Max Iout(mA): 15; Vin Max(V): 4.4; Vin Min(V): 2; Voutput: 3.3V; PackageVersion: Aug-07; PackageReference: S5-5; PackageDescription: 5-Pin Plastic SOT-23, Body 1.625 x 2.90 mm, Pitch 0.95 mm; Supplier 1: Digi-Key; Supplier Part Number 1: LTC1517ES5-3.3#TRMPBFTR-ND; Supplier 2: Digi-Key; Supplier Part Number 2: LTC1517ES5-3.3#TRMPBFCT-ND; Supplier 3: Digi-Key; Supplier Part Number 3: LTC1517ES5-3.3#TRMPBFDKR-ND; Packing: Mini Tape and Reel; RoHS: TRUE; Mounting Technology: Surface Mount; ComponentLink1Description: Manufacturer URL; ComponentLink1URL: http://www.linear.com/; ComponentLink2Description: Datasheet; ComponentLink2URL: http://cds.linear.com/docs/en/datasheet/15173fs.pdf; ComponentLink3Description: Package Specification; ComponentLink3URL: http://cds.linear.com/docs/en/datasheet/17278fb.pdf
footprint LT-S5-5-SOT-23_N (SOT23, 5-Leads, Body 3x1.75mm, Pitch 0.95mm, IPC Medium Density)
footprint LT-S5-5-SOT-23_L (SOT23, 5-Leads, Body 3x1.75mm, Pitch 0.95mm, IPC High Density)
footprint LT-S5-5-SOT-23_M (SOT23, 5-Leads, Body 3x1.75mm, Pitch 0.95mm, IPC Low Density)
pins: 1 VIN (power) "Charge Pump Input Voltage.", 2 GND (power) "Ground. Should be tied to a ground plane for best performance.", 3 VOUT (power) "Regulated Output Voltage. VOUT should be  bypassed with a >= 3.3 uF low ESR capacitor as close as possible to the pin for best performance.", 4 C1+ "Charge Pump Flying Capacitor Positive Terminal.", 5 C1- "Charge Pump Flying Capacitor Negative Terminal."

## LTC1517ES5-3.3#TRPBF
designator U?
Micropower, Regulated Charge Pump, 2 to 4.4 V Vin, 3.3 V Vout, 5-pin SOT23 (S5-5), -40 to 85 degC, Pb-Free, Tape and Reel; Manufacturer: Linear Technology; PartNumber: LTC1517ES5-3.3#TRPBF; Frequency(kHz): 700; Ishutdown(uA): 1; Isupply(mA): 0.006; Max Iout(mA): 15; Vin Max(V): 4.4; Vin Min(V): 2; Voutput: 3.3V; PackageVersion: Aug-07; PackageReference: S5-5; PackageDescription: 5-Pin Plastic SOT-23, Body 1.625 x 2.90 mm, Pitch 0.95 mm; Supplier 1: Digi-Key; Supplier Part Number 1: LTC1517ES5-3.3#TRPBF-ND; Packing: Tape and Reel; RoHS: TRUE; Mounting Technology: Surface Mount; ComponentLink1Description: Manufacturer URL; ComponentLink1URL: http://www.linear.com/; ComponentLink2Description: Datasheet; ComponentLink2URL: http://cds.linear.com/docs/en/datasheet/15173fs.pdf; ComponentLink3Description: Package Specification; ComponentLink3URL: http://cds.linear.com/docs/en/datasheet/17278fb.pdf
footprint LT-S5-5-SOT-23_N (SOT23, 5-Leads, Body 3x1.75mm, Pitch 0.95mm, IPC Medium Density)
footprint LT-S5-5-SOT-23_L (SOT23, 5-Leads, Body 3x1.75mm, Pitch 0.95mm, IPC High Density)
footprint LT-S5-5-SOT-23_M (SOT23, 5-Leads, Body 3x1.75mm, Pitch 0.95mm, IPC Low Density)
pins: 1 VIN (power) "Charge Pump Input Voltage.", 2 GND (power) "Ground. Should be tied to a ground plane for best performance.", 3 VOUT (power) "Regulated Output Voltage. VOUT should be  bypassed with a >= 3.3 uF low ESR capacitor as close as possible to the pin for best performance.", 4 C1+ "Charge Pump Flying Capacitor Positive Terminal.", 5 C1- "Charge Pump Flying Capacitor Negative Terminal."

## LTC1517ES5-5
designator U?
Micropower, Regulated Charge Pump, 2.7 to 5 V Vin, 5 V Vout, 5-pin SOT23 (S5-5), -40 to 85 degC; Manufacturer: Linear Technology; PartNumber: LTC1517ES5-5; Frequency(kHz): 800; Ishutdown(uA): 1; Isupply(mA): 0.006; Max Iout(mA): 20; Vin Max(V): 5; Vin Min(V): 2.7; Voutput: 5V; PackageVersion: Aug-07; PackageReference: S5-5; PackageDescription: 5-Pin Plastic SOT-23, Body 1.625 x 2.90 mm, Pitch 0.95 mm; RoHS: FALSE; Mounting Technology: Surface Mount; ComponentLink1Description: Manufacturer URL; ComponentLink1URL: http://www.linear.com/; ComponentLink2Description: Datasheet; ComponentLink2URL: http://cds.linear.com/docs/en/datasheet/15175fs.pdf; ComponentLink3Description: Package Specification; ComponentLink3URL: http://cds.linear.com/docs/en/datasheet/17278fb.pdf
footprint LT-S5-5-SOT-23_N (SOT23, 5-Leads, Body 3x1.75mm, Pitch 0.95mm, IPC Medium Density)
footprint LT-S5-5-SOT-23_L (SOT23, 5-Leads, Body 3x1.75mm, Pitch 0.95mm, IPC High Density)
footprint LT-S5-5-SOT-23_M (SOT23, 5-Leads, Body 3x1.75mm, Pitch 0.95mm, IPC Low Density)
pins: 1 VIN (power) "Charge Pump Input Voltage.", 2 GND (power) "Ground. Should be tied to a ground plane for best performance.", 3 VOUT (power) "Regulated Output Voltage. VOUT should be  bypassed with a >= 3.3 uF low ESR capacitor as close as possible to the pin for best performance.", 4 C1+ "Charge Pump Flying Capacitor Positive Terminal.", 5 C1- "Charge Pump Flying Capacitor Negative Terminal."

## LTC1517ES5-5#PBF
designator U?
Micropower, Regulated Charge Pump, 2.7 to 5 V Vin, 5 V Vout, 5-pin SOT23 (S5-5), -40 to 85 degC, Pb-Free; Manufacturer: Linear Technology; PartNumber: LTC1517ES5-5#PBF; Frequency(kHz): 800; Ishutdown(uA): 1; Isupply(mA): 0.006; Max Iout(mA): 20; Vin Max(V): 5; Vin Min(V): 2.7; Voutput: 5V; PackageVersion: Aug-07; PackageReference: S5-5; PackageDescription: 5-Pin Plastic SOT-23, Body 1.625 x 2.90 mm, Pitch 0.95 mm; Supplier 1: Newark; Supplier Part Number 1: 78T2500; RoHS: TRUE; Mounting Technology: Surface Mount; ComponentLink1Description: Manufacturer URL; ComponentLink1URL: http://www.linear.com/; ComponentLink2Description: Datasheet; ComponentLink2URL: http://cds.linear.com/docs/en/datasheet/15175fs.pdf; ComponentLink3Description: Package Specification; ComponentLink3URL: http://cds.linear.com/docs/en/datasheet/17278fb.pdf
footprint LT-S5-5-SOT-23_N (SOT23, 5-Leads, Body 3x1.75mm, Pitch 0.95mm, IPC Medium Density)
footprint LT-S5-5-SOT-23_L (SOT23, 5-Leads, Body 3x1.75mm, Pitch 0.95mm, IPC High Density)
footprint LT-S5-5-SOT-23_M (SOT23, 5-Leads, Body 3x1.75mm, Pitch 0.95mm, IPC Low Density)
pins: 1 VIN (power) "Charge Pump Input Voltage.", 2 GND (power) "Ground. Should be tied to a ground plane for best performance.", 3 VOUT (power) "Regulated Output Voltage. VOUT should be  bypassed with a >= 3.3 uF low ESR capacitor as close as possible to the pin for best performance.", 4 C1+ "Charge Pump Flying Capacitor Positive Terminal.", 5 C1- "Charge Pump Flying Capacitor Negative Terminal."

## LTC1517ES5-5#TR
designator U?
Micropower, Regulated Charge Pump, 2.7 to 5 V Vin, 5 V Vout, 5-pin SOT23 (S5-5), -40 to 85 degC, Tape and Reel; Manufacturer: Linear Technology; PartNumber: LTC1517ES5-5#TR; Frequency(kHz): 800; Ishutdown(uA): 1; Isupply(mA): 0.006; Max Iout(mA): 20; Vin Max(V): 5; Vin Min(V): 2.7; Voutput: 5V; PackageVersion: Aug-07; PackageReference: S5-5; PackageDescription: 5-Pin Plastic SOT-23, Body 1.625 x 2.90 mm, Pitch 0.95 mm; Supplier 1: Digi-Key; Supplier Part Number 1: LTC1517ES5-5TR-ND; Packing: Tape and Reel; RoHS: FALSE; Mounting Technology: Surface Mount; ComponentLink1Description: Manufacturer URL; ComponentLink1URL: http://www.linear.com/; ComponentLink2Description: Datasheet; ComponentLink2URL: http://cds.linear.com/docs/en/datasheet/15175fs.pdf; ComponentLink3Description: Package Specification; ComponentLink3URL: http://cds.linear.com/docs/en/datasheet/17278fb.pdf
footprint LT-S5-5-SOT-23_N (SOT23, 5-Leads, Body 3x1.75mm, Pitch 0.95mm, IPC Medium Density)
footprint LT-S5-5-SOT-23_L (SOT23, 5-Leads, Body 3x1.75mm, Pitch 0.95mm, IPC High Density)
footprint LT-S5-5-SOT-23_M (SOT23, 5-Leads, Body 3x1.75mm, Pitch 0.95mm, IPC Low Density)
pins: 1 VIN (power) "Charge Pump Input Voltage.", 2 GND (power) "Ground. Should be tied to a ground plane for best performance.", 3 VOUT (power) "Regulated Output Voltage. VOUT should be  bypassed with a >= 3.3 uF low ESR capacitor as close as possible to the pin for best performance.", 4 C1+ "Charge Pump Flying Capacitor Positive Terminal.", 5 C1- "Charge Pump Flying Capacitor Negative Terminal."

## LTC1517ES5-5#TRM
designator U?
Micropower, Regulated Charge Pump, 2.7 to 5 V Vin, 5 V Vout, 5-pin SOT23 (S5-5), -40 to 85 degC, Mini Tape and Reel; Manufacturer: Linear Technology; PartNumber: LTC1517ES5-5#TRM; Frequency(kHz): 800; Ishutdown(uA): 1; Isupply(mA): 0.006; Max Iout(mA): 20; Vin Max(V): 5; Vin Min(V): 2.7; Voutput: 5V; PackageVersion: Aug-07; PackageReference: S5-5; PackageDescription: 5-Pin Plastic SOT-23, Body 1.625 x 2.90 mm, Pitch 0.95 mm; Supplier 1: Digi-Key; Supplier Part Number 1: LTC1517ES5-5#TRMCT-ND; Packing: Mini Tape and Reel; RoHS: FALSE; Mounting Technology: Surface Mount; ComponentLink1Description: Manufacturer URL; ComponentLink1URL: http://www.linear.com/; ComponentLink2Description: Datasheet; ComponentLink2URL: http://cds.linear.com/docs/en/datasheet/15175fs.pdf; ComponentLink3Description: Package Specification; ComponentLink3URL: http://cds.linear.com/docs/en/datasheet/17278fb.pdf
footprint LT-S5-5-SOT-23_N (SOT23, 5-Leads, Body 3x1.75mm, Pitch 0.95mm, IPC Medium Density)
footprint LT-S5-5-SOT-23_L (SOT23, 5-Leads, Body 3x1.75mm, Pitch 0.95mm, IPC High Density)
footprint LT-S5-5-SOT-23_M (SOT23, 5-Leads, Body 3x1.75mm, Pitch 0.95mm, IPC Low Density)
pins: 1 VIN (power) "Charge Pump Input Voltage.", 2 GND (power) "Ground. Should be tied to a ground plane for best performance.", 3 VOUT (power) "Regulated Output Voltage. VOUT should be  bypassed with a >= 3.3 uF low ESR capacitor as close as possible to the pin for best performance.", 4 C1+ "Charge Pump Flying Capacitor Positive Terminal.", 5 C1- "Charge Pump Flying Capacitor Negative Terminal."

## LTC1517ES5-5#TRMPBF
designator U?
Micropower, Regulated Charge Pump, 2.7 to 5 V Vin, 5 V Vout, 5-pin SOT23 (S5-5), -40 to 85 degC, Pb-Free, Mini Tape and Reel; Manufacturer: Linear Technology; PartNumber: LTC1517ES5-5#TRMPBF; Frequency(kHz): 800; Ishutdown(uA): 1; Isupply(mA): 0.006; Max Iout(mA): 20; Vin Max(V): 5; Vin Min(V): 2.7; Voutput: 5V; PackageVersion: Aug-07; PackageReference: S5-5; PackageDescription: 5-Pin Plastic SOT-23, Body 1.625 x 2.90 mm, Pitch 0.95 mm; Supplier 1: Digi-Key; Supplier Part Number 1: LTC1517ES5-5#TRMPBFTR-ND; Supplier 2: Digi-Key; Supplier Part Number 2: LTC1517ES5-5#TRMPBFCT-ND; Supplier 3: Digi-Key; Supplier Part Number 3: LTC1517ES5-5#TRMPBFDKR-ND; Supplier 4: Newark; Supplier Part Number 4: 56M1758; Packing: Mini Tape and Reel; RoHS: TRUE; Mounting Technology: Surface Mount; ComponentLink1Description: Manufacturer URL; ComponentLink1URL: http://www.linear.com/; ComponentLink2Description: Datasheet; ComponentLink2URL: http://cds.linear.com/docs/en/datasheet/15175fs.pdf; ComponentLink3Description: Package Specification; ComponentLink3URL: http://cds.linear.com/docs/en/datasheet/17278fb.pdf
footprint LT-S5-5-SOT-23_N (SOT23, 5-Leads, Body 3x1.75mm, Pitch 0.95mm, IPC Medium Density)
footprint LT-S5-5-SOT-23_L (SOT23, 5-Leads, Body 3x1.75mm, Pitch 0.95mm, IPC High Density)
footprint LT-S5-5-SOT-23_M (SOT23, 5-Leads, Body 3x1.75mm, Pitch 0.95mm, IPC Low Density)
pins: 1 VIN (power) "Charge Pump Input Voltage.", 2 GND (power) "Ground. Should be tied to a ground plane for best performance.", 3 VOUT (power) "Regulated Output Voltage. VOUT should be  bypassed with a >= 3.3 uF low ESR capacitor as close as possible to the pin for best performance.", 4 C1+ "Charge Pump Flying Capacitor Positive Terminal.", 5 C1- "Charge Pump Flying Capacitor Negative Terminal."

## LTC1517ES5-5#TRPBF
designator U?
Micropower, Regulated Charge Pump, 2.7 to 5 V Vin, 5 V Vout, 5-pin SOT23 (S5-5), -40 to 85 degC, Pb-Free, Tape and Reel; Manufacturer: Linear Technology; PartNumber: LTC1517ES5-5#TRPBF; Frequency(kHz): 800; Ishutdown(uA): 1; Isupply(mA): 0.006; Max Iout(mA): 20; Vin Max(V): 5; Vin Min(V): 2.7; Voutput: 5V; PackageVersion: Aug-07; PackageReference: S5-5; PackageDescription: 5-Pin Plastic SOT-23, Body 1.625 x 2.90 mm, Pitch 0.95 mm; Supplier 1: Digi-Key; Supplier Part Number 1: LTC1517ES5-5#TRPBF-ND; Packing: Tape and Reel; RoHS: TRUE; Mounting Technology: Surface Mount; ComponentLink1Description: Manufacturer URL; ComponentLink1URL: http://www.linear.com/; ComponentLink2Description: Datasheet; ComponentLink2URL: http://cds.linear.com/docs/en/datasheet/15175fs.pdf; ComponentLink3Description: Package Specification; ComponentLink3URL: http://cds.linear.com/docs/en/datasheet/17278fb.pdf
footprint LT-S5-5-SOT-23_N (SOT23, 5-Leads, Body 3x1.75mm, Pitch 0.95mm, IPC Medium Density)
footprint LT-S5-5-SOT-23_L (SOT23, 5-Leads, Body 3x1.75mm, Pitch 0.95mm, IPC High Density)
footprint LT-S5-5-SOT-23_M (SOT23, 5-Leads, Body 3x1.75mm, Pitch 0.95mm, IPC Low Density)
pins: 1 VIN (power) "Charge Pump Input Voltage.", 2 GND (power) "Ground. Should be tied to a ground plane for best performance.", 3 VOUT (power) "Regulated Output Voltage. VOUT should be  bypassed with a >= 3.3 uF low ESR capacitor as close as possible to the pin for best performance.", 4 C1+ "Charge Pump Flying Capacitor Positive Terminal.", 5 C1- "Charge Pump Flying Capacitor Negative Terminal."

## LTC1522CMS8
designator U?
Micropower, Regulated Charge Pump DC/DC Converter, 2.7 to 5 V Vin, 5 V Vout, 8-pin SOP (MS8-8), 0 to 70 degC; Manufacturer: Linear Technology; PartNumber: LTC1522CMS8; Frequency(kHz): 700; Ishutdown(uA): 1; Isupply(mA): 0.006; Max Iout(mA): 20; Vin Max(V): 5; Vin Min(V): 2.7; Voutput: 5V; PackageVersion: Rev. G, 03/2012; PackageReference: MS8-8; PackageDescription: 8-Pin Plastic MSOP, Body 3 x 3 mm, Pitch 0.65 mm; Supplier 1: Digi-Key; Supplier Part Number 1: LTC1522CMS8-ND; RoHS: FALSE; Mounting Technology: Surface Mount; ComponentLink1Description: Manufacturer URL; ComponentLink1URL: http://www.linear.com/; ComponentLink2Description: Datasheet; ComponentLink2URL: http://cds.linear.com/docs/en/datasheet/1522f.pdf; ComponentLink3Description: Package Specification; ComponentLink3URL: http://cds.linear.com/docs/en/packaging/05081660_G_MS8.pdf
footprint LT-MS8-8_N (SOP, 8-Leads, Body 3.1x3.1mm, Pitch 0.65mm, IPC Medium Density)
footprint LT-MS8-8_L (SOP, 8-Leads, Body 3.1x3.1mm, Pitch 0.65mm, IPC High Density)
footprint LT-MS8-8_M (SOP, 8-Leads, Body 3.1x3.1mm, Pitch 0.65mm, IPC Low Density)
pins: 1 NC "No Connect.", 2 VIN (power) "Input Supply Voltage. Bypass VIN with a >=3.3uF low ESR capacitor.", 3 VOUT (power) "5V Output Voltage (VOUT  = 0V in Shutdown). Bypass VOUT with a >=3.3uF low ESR capacitor.", 4 C+ "Flying Capacitor, Positive Terminal.", 5 C- "Flying Capacitor, Negative Terminal.", 6 GND (power) "Ground.", 7 SHDN (in) "Active High CMOS Logic-Level Shutdown Input. Drive SHDN low to enable the DC/DC converter. Do not float.", 8 NC "No Connect."

## LTC1522CMS8#PBF
designator U?
Micropower, Regulated Charge Pump DC/DC Converter, 2.7 to 5 V Vin, 5 V Vout, 8-pin SOP (MS8-8), 0 to 70 degC, Pb-Free; Manufacturer: Linear Technology; PartNumber: LTC1522CMS8#PBF; Frequency(kHz): 700; Ishutdown(uA): 1; Isupply(mA): 0.006; Max Iout(mA): 20; Vin Max(V): 5; Vin Min(V): 2.7; Voutput: 5V; PackageVersion: Rev. G, 03/2012; PackageReference: MS8-8; PackageDescription: 8-Pin Plastic MSOP, Body 3 x 3 mm, Pitch 0.65 mm; Supplier 1: Digi-Key; Supplier Part Number 1: LTC1522CMS8#PBF-ND; RoHS: TRUE; Mounting Technology: Surface Mount; ComponentLink1Description: Manufacturer URL; ComponentLink1URL: http://www.linear.com/; ComponentLink2Description: Datasheet; ComponentLink2URL: http://cds.linear.com/docs/en/datasheet/1522f.pdf; ComponentLink3Description: Package Specification; ComponentLink3URL: http://cds.linear.com/docs/en/packaging/05081660_G_MS8.pdf
footprint LT-MS8-8_N (SOP, 8-Leads, Body 3.1x3.1mm, Pitch 0.65mm, IPC Medium Density)
footprint LT-MS8-8_L (SOP, 8-Leads, Body 3.1x3.1mm, Pitch 0.65mm, IPC High Density)
footprint LT-MS8-8_M (SOP, 8-Leads, Body 3.1x3.1mm, Pitch 0.65mm, IPC Low Density)
pins: 1 NC "No Connect.", 2 VIN (power) "Input Supply Voltage. Bypass VIN with a >=3.3uF low ESR capacitor.", 3 VOUT (power) "5V Output Voltage (VOUT  = 0V in Shutdown). Bypass VOUT with a >=3.3uF low ESR capacitor.", 4 C+ "Flying Capacitor, Positive Terminal.", 5 C- "Flying Capacitor, Negative Terminal.", 6 GND (power) "Ground.", 7 SHDN (in) "Active High CMOS Logic-Level Shutdown Input. Drive SHDN low to enable the DC/DC converter. Do not float.", 8 NC "No Connect."

## LTC1522CMS8#TR
designator U?
Micropower, Regulated Charge Pump DC/DC Converter, 2.7 to 5 V Vin, 5 V Vout, 8-pin SOP (MS8-8), 0 to 70 degC, Tape and Reel; Manufacturer: Linear Technology; PartNumber: LTC1522CMS8#TR; Frequency(kHz): 700; Ishutdown(uA): 1; Isupply(mA): 0.006; Max Iout(mA): 20; Vin Max(V): 5; Vin Min(V): 2.7; Voutput: 5V; PackageVersion: Rev. G, 03/2012; PackageReference: MS8-8; PackageDescription: 8-Pin Plastic MSOP, Body 3 x 3 mm, Pitch 0.65 mm; Supplier 1: Digi-Key; Supplier Part Number 1: LTC1522CMS8#TR-ND; Packing: Tape and Reel; RoHS: FALSE; Mounting Technology: Surface Mount; ComponentLink1Description: Manufacturer URL; ComponentLink1URL: http://www.linear.com/; ComponentLink2Description: Datasheet; ComponentLink2URL: http://cds.linear.com/docs/en/datasheet/1522f.pdf; ComponentLink3Description: Package Specification; ComponentLink3URL: http://cds.linear.com/docs/en/packaging/05081660_G_MS8.pdf
footprint LT-MS8-8_N (SOP, 8-Leads, Body 3.1x3.1mm, Pitch 0.65mm, IPC Medium Density)
footprint LT-MS8-8_L (SOP, 8-Leads, Body 3.1x3.1mm, Pitch 0.65mm, IPC High Density)
footprint LT-MS8-8_M (SOP, 8-Leads, Body 3.1x3.1mm, Pitch 0.65mm, IPC Low Density)
pins: 1 NC "No Connect.", 2 VIN (power) "Input Supply Voltage. Bypass VIN with a >=3.3uF low ESR capacitor.", 3 VOUT (power) "5V Output Voltage (VOUT  = 0V in Shutdown). Bypass VOUT with a >=3.3uF low ESR capacitor.", 4 C+ "Flying Capacitor, Positive Terminal.", 5 C- "Flying Capacitor, Negative Terminal.", 6 GND (power) "Ground.", 7 SHDN (in) "Active High CMOS Logic-Level Shutdown Input. Drive SHDN low to enable the DC/DC converter. Do not float.", 8 NC "No Connect."

## LTC1522CMS8#TRPBF
designator U?
Micropower, Regulated Charge Pump DC/DC Converter, 2.7 to 5 V Vin, 5 V Vout, 8-pin SOP (MS8-8), 0 to 70 degC, Pb-Free, Tape and Reel; Manufacturer: Linear Technology; PartNumber: LTC1522CMS8#TRPBF; Frequency(kHz): 700; Ishutdown(uA): 1; Isupply(mA): 0.006; Max Iout(mA): 20; Vin Max(V): 5; Vin Min(V): 2.7; Voutput: 5V; PackageVersion: Rev. G, 03/2012; PackageReference: MS8-8; PackageDescription: 8-Pin Plastic MSOP, Body 3 x 3 mm, Pitch 0.65 mm; Supplier 1: Digi-Key; Supplier Part Number 1: LTC1522CMS8#TRPBF-ND; Packing: Tape and Reel; RoHS: TRUE; Mounting Technology: Surface Mount; ComponentLink1Description: Manufacturer URL; ComponentLink1URL: http://www.linear.com/; ComponentLink2Description: Datasheet; ComponentLink2URL: http://cds.linear.com/docs/en/datasheet/1522f.pdf; ComponentLink3Description: Package Specification; ComponentLink3URL: http://cds.linear.com/docs/en/packaging/05081660_G_MS8.pdf
footprint LT-MS8-8_N (SOP, 8-Leads, Body 3.1x3.1mm, Pitch 0.65mm, IPC Medium Density)
footprint LT-MS8-8_L (SOP, 8-Leads, Body 3.1x3.1mm, Pitch 0.65mm, IPC High Density)
footprint LT-MS8-8_M (SOP, 8-Leads, Body 3.1x3.1mm, Pitch 0.65mm, IPC Low Density)
pins: 1 NC "No Connect.", 2 VIN (power) "Input Supply Voltage. Bypass VIN with a >=3.3uF low ESR capacitor.", 3 VOUT (power) "5V Output Voltage (VOUT  = 0V in Shutdown). Bypass VOUT with a >=3.3uF low ESR capacitor.", 4 C+ "Flying Capacitor, Positive Terminal.", 5 C- "Flying Capacitor, Negative Terminal.", 6 GND (power) "Ground.", 7 SHDN (in) "Active High CMOS Logic-Level Shutdown Input. Drive SHDN low to enable the DC/DC converter. Do not float.", 8 NC "No Connect."